# Altium schematic symbol library Schlib1.SchLib: 1 symbol
Pins are listed as number, name and electrical type; pins without a type are passive.

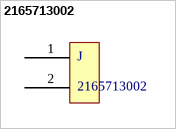
[diagram p0: symbol 2165713002]

## 2165713002
designator J
Micro-Fit+ Vertical Header, Through Hole, 3.00mm Pitch, Single Row, 2 Circuits, 0.76µm Gold (Au) Plating, Glow-Wire Capable, Black
footprint PCBComponent_1
pins: 1, 2